# EAGLE library part ESP-PRO (library draradech)
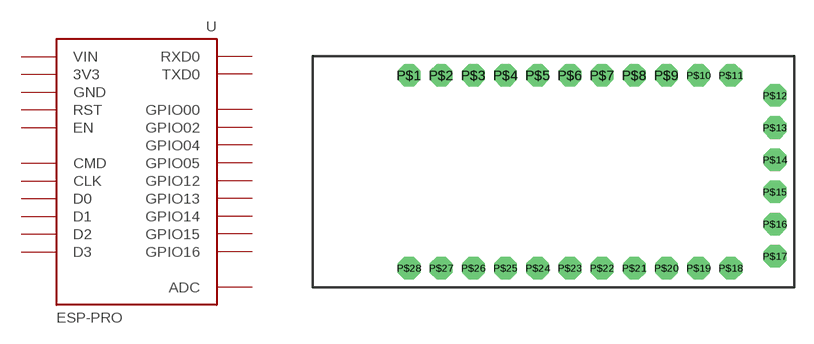
[diagram p2: symbol with the pads of ESP-PRO; footprint ESP-PRO]

Designator prefix U

## ESP-PRO  [ESP-PRO]
P$1  D3
P$2  D2
P$3  D1
P$4  D0
P$5  CLK
P$6  GPIO05
P$7  GPIO04
P$8  GPIO02
P$9  GPIO00
P$10  TXD0
P$11  RXD0
P$12  RST
P$13  TXD0
P$14  RXD0
P$15  3V3
P$16  GND
P$17  GPIO12
P$18  VIN
P$19  GND
P$20  RST
P$21  GPIO12
P$22  GPIO13
P$23  GPIO14
P$24  GPIO15
P$25  GPIO16
P$26  EN
P$27  ADC
P$28  CMD

## Footprint ESP-PRO (pad centres in mm)
drill 1 pad 1.778 octagon: P$1 -2.54,0; P$2 0,0; P$3 2.54,0; P$4 5.08,0; P$5 7.62,0; P$6 10.16,0; P$7 12.7,0; P$8 15.24,0; P$9 17.78,0; P$10 20.32,0; P$11 22.86,0; P$12 26.34,-1.6; P$13 26.34,-4.14; P$14 26.34,-6.68; P$15 26.34,-9.22; P$16 26.34,-11.76; P$17 26.34,-14.3; P$18 22.86,-15.24; P$19 20.32,-15.24; P$20 17.78,-15.24; P$21 15.24,-15.24; P$22 12.7,-15.24; P$23 10.16,-15.24; P$24 7.62,-15.24; P$25 5.08,-15.24; P$26 2.54,-15.24; P$27 0,-15.24; P$28 -2.54,-15.24